# EAGLE library part ICSP-6PIN (library Header and Connector)
ICSP Connector for Microchip MCU (with AUX pin)
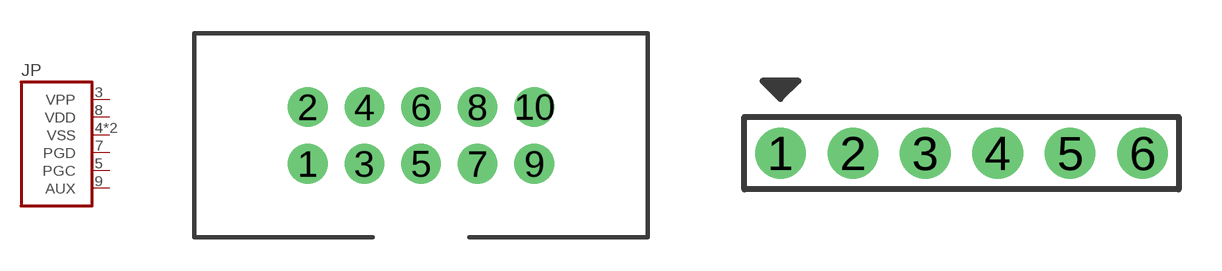
[diagram p0: symbol with the pads of IDC-2X05; footprints IDC-2X05, ICSP-6PIN]

Designator prefix JP

## ICSP-6PIN_(IDC-2X05) (CYTRON-PC: CN-IDC-BOX-10; DESC: IDC Box Header - Straight; LABEL: ICSP; VALUE: 10 Ways)  [IDC-2X05]
3  VPP  pas
4  VSS  pas
5  PGC  pas
6  VSS  pas
7  PGD  pas
8  VDD  pas
9  AUX  pas

## ICSP-6PIN_(PICKIT) (CYTRON-PC: CN-PH-M140S; DESC: Male Header - 1x40 Ways; LABEL: ICSP; VALUE: 6/40 Ways)  [ICSP-6PIN]
1  VPP  pas
2  VDD  pas
3  VSS  pas
4  PGD  pas
5  PGC  pas
6  AUX  pas

## ICSP-6PIN (DESC: IDC-BOX HEARDER-SMD; LABEL: ICSP; VALUE: 10 WAYS)  [ICSP-6PIN-SMD]
2  VSS  pas
3  VPP  pas
4  VSS  pas
5  PGC  pas
7  PGD  pas
8  VDD  pas
9  AUX  pas

## Footprint IDC-2X05 (pad centres in mm)
IDC Box Header (Straight) - 2X05
drill 1.016 pad 1.778: 1 -5.08,-1.27; 2 -5.08,1.27; 3 -2.54,-1.27; 4 -2.54,1.27; 5 0,-1.27; 6 0,1.27; 7 2.54,-1.27; 8 2.54,1.27; 9 5.08,-1.27; 10 5.08,1.27

## Footprint ICSP-6PIN (pad centres in mm)
PICKIT ICSP Header - 1X06 (With marking on pin 1)
drill 1.016 pad 1.778: 1 0,0; 2 2.54,0; 3 5.08,0; 4 7.62,0; 5 10.16,0; 6 12.7,0

## Footprint ICSP-6PIN-SMD (pad centres in mm)
smd 0.8 x 5.662: 1 -5.08,-3.535; 2 -5.08,3.535; 3 -2.54,-3.535; 4 -2.54,3.535; 5 0,-3.535; 6 0,3.535; 7 2.54,-3.535; 8 2.54,3.535; 9 5.08,-3.535; 10 5.08,3.535